# Altium integrated library LED-3MM-TH.IntLib: 1 symbol
Pins are listed as number, name and electrical type; pins without a type are passive.

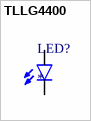
[diagram p0: symbol TLLG4400]

## TLLG4400
designator LED?
LED; PCB ; Green; 0.63mcd; 3mm; T-1; 7mA; 1.9V; 565nm; 25deg; GaP on GaP; 20V; 20mW; -40; MF: Vishay Semiconductor; MP: TLLG4400; SnapEDA_Link: https://www.snapeda.com/parts/TLLG4400/Vishay/view-part/?ref=snap; Package: Package; Value: *; Check_prices: https://www.snapeda.com/parts/TLLG4400/Vishay/view-part/?ref=eda
footprint LED3MM
pins: A, K C